# EAGLE library part WASPMOTE_V1.5 (library UIO-John)
WaspMote v1.5 (c) 2017 john.hulth@geo.uio.no
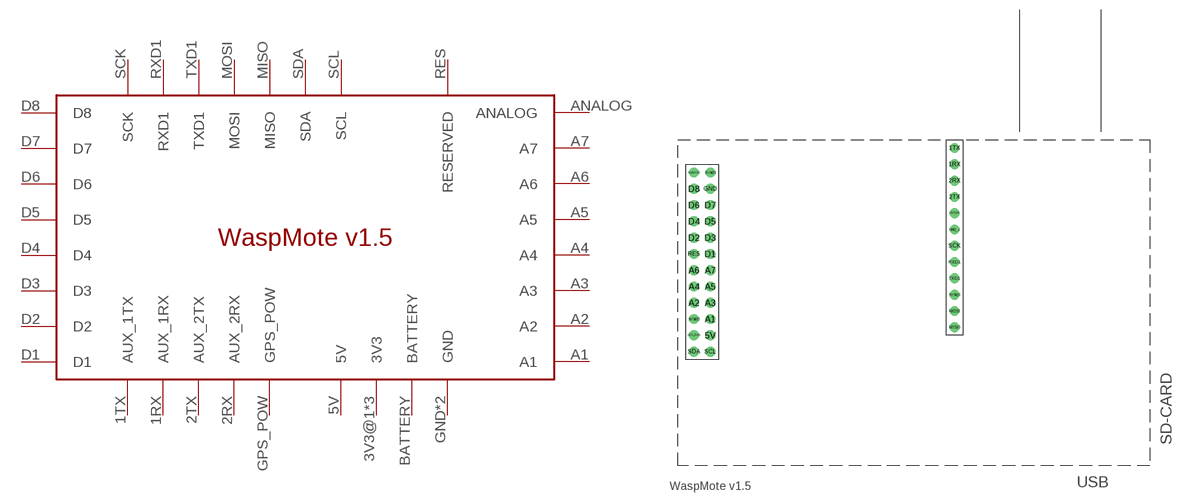
[diagram p0: symbol with the pads of WASPMOTE_V1.5; footprint WASPMOTE_V1.5]

Designator prefix -

## WASPMOTE_V1.5  [WASPMOTE_V1.5]
1RX  AUX_1RX
1TX  AUX_1TX
2RX  AUX_2RX
2TX  AUX_2TX
3V3@1  3V3
3V3@2  3V3
3V3@3  3V3
5V  5V
A1  A1
A2  A2
A3  A3
A4  A4
A5  A5
A6  A6
A7  A7
ANALOG  ANALOG
BATTERY  BATTERY
D1  D1
D2  D2
D3  D3
D4  D4
D5  D5
D6  D6
D7  D7
D8  D8
GND  GND
GND_2  GND
GPS_POW  GPS_POW
MISO  MISO
MOSI  MOSI
RES  RESERVED
RXD1  RXD1
SCK  SCK
SCL  SCL
SDA  SDA
TXD1  TXD1

## Footprint WASPMOTE_V1.5 (pad centres in mm)
WaspMote v1.5 (c) 2017 john.hulth@geo.uio.no
drill 1.016: 1RX 43.18,46.99; 1TX 43.18,49.53; 2RX 43.18,44.45; 2TX 43.18,41.91; 3V3@1 5.08,45.72; 3V3@2 2.54,22.86; 3V3@3 43.18,26.67; 5V 5.08,20.32; A1 5.08,22.86; A2 2.54,25.4; A3 5.08,25.4; A4 2.54,27.94; A5 5.08,27.94; A6 2.54,30.48; A7 5.08,30.48; ANALOG 2.54,45.72; BATTERY 43.18,39.37; D1 5.08,33.02; D2 2.54,35.56; D3 5.08,35.56; D4 2.54,38.1; D5 5.08,38.1; D6 2.54,40.64; D7 5.08,40.64; D8 2.54,43.18; GND 5.08,43.18; GND_2 43.18,36.83; GPS_POW 2.54,20.32; MISO 43.18,21.59; MOSI 43.18,24.13; RES 2.54,33.02; RXD1 43.18,31.75; SCK 43.18,34.29; SCL 5.08,17.78; SDA 2.54,17.78; TXD1 43.18,29.21